# EAGLE library part ADP5062 (library FoneAstra)
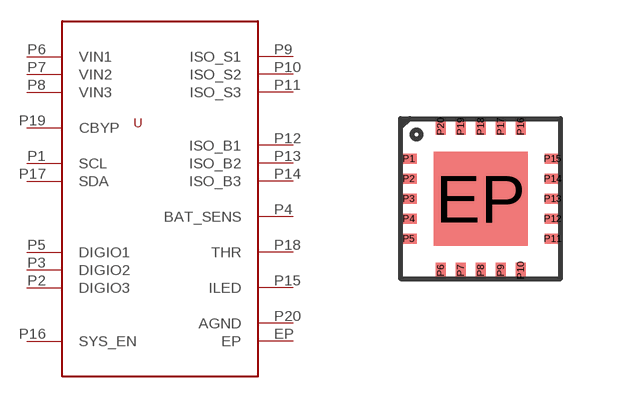
[diagram p0: symbol with the pads of LFCSP_WQ20; footprint LFCSP_WQ20]

Designator prefix U

## ADP5062  [LFCSP_WQ20]
EP  EP
P1  SCL
P2  DIGIO3
P3  DIGIO2
P4  BAT_SENS
P5  DIGIO1
P6  VIN1
P7  VIN2
P8  VIN3
P9  ISO_S1
P10  ISO_S2
P11  ISO_S3
P12  ISO_B1
P13  ISO_B2
P14  ISO_B3
P15  ILED
P16  SYS_EN
P17  SDA
P18  THR
P19  CBYP
P20  AGND

## Footprint LFCSP_WQ20 (pad centres in mm)
smd 2.35 x 2.35: EP 0,0
smd 0.4 x 0.25: P1 -1.8,1; P2 -1.8,0.5; P3 -1.8,0; P4 -1.8,-0.5; P5 -1.8,-1; P11 1.8,-1; P12 1.8,-0.5; P13 1.8,0; P14 1.8,0.5; P15 1.8,1
smd 0.25 x 0.4: P6 -1,-1.8; P7 -0.5,-1.8; P8 0,-1.8; P9 0.5,-1.8; P10 1,-1.8; P16 1,1.8; P17 0.5,1.8; P18 0,1.8; P19 -0.5,1.8; P20 -1,1.8